# Altium schematic symbol library MSD-4-A.SchLib: 1 symbol
Pins are listed as number, name and electrical type; pins without a type are passive.

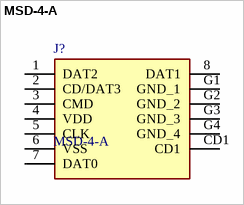
[diagram p0: symbol MSD-4-A]

## MSD-4-A
designator J?
Memory Card Connectors 9 Positions, Push In, Auto Eject Out, SMT, 1.8 mm Height Above Board,; Manufacturer_Name: CUI Devices; Geometry.Height: 2mm; Mouser Part Number: 179-MSD-4-A; Mouser Price/Stock: https://www.mouser.co.uk/ProductDetail/CUI-Devices/MSD-4-A?qs=Z%252BL2brAPG1Jll%252BQTi%252Btupg%3D%3D; Manufacturer_Part_Number: MSD-4-A; Datasheet Link: https://www.cuidevices.com/product/resource/pdf/msd-4-a.pdf
footprint MSD4A
pins: 1 DAT2, 2 CD/DAT3, 3 CMD, 4 VDD, 5 CLK, 6 VSS, 7 DAT0, 8 DAT1, CD1, G1 GND_1, G2 GND_2, G3 GND_3, G4 GND_4